# Altium footprint library heatsink.PcbLib: 1 footprints
Each footprint in its own frame and in the unit in brackets; x right, y up, seen from the top. Pads: shape width x height; smd on the part's side, far side on the other; paste and mask are expansions set on the pad; w line width, h text height; cw(c..) or ccw(c..) is an arc to the next point about the centre after c.
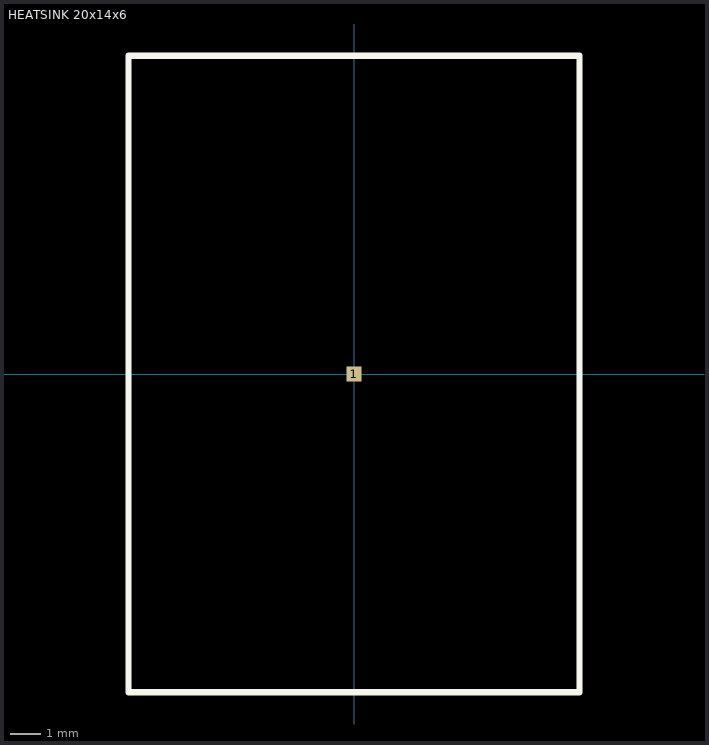
[diagram p0: the footprint, top view; thin cyan lines are the x and y axes]

## HEATSINK 20x14x6 [mm]
pads (1):
  rect 0.5x0.5 smd mask+0.102: 1(0,0)
Top Overlay:
  lines w0.2: -7.3,-10.3 -7.3,10.3 7.3,10.3 7.3,-10.3 -7.3,-10.3
3D body "heatsink 20x14.stp": height 4, standoff 0, extent -7,-10 7,10